# Altium integrated library ULN2003ADRG3.IntLib: 1 symbol
Pins are listed as number, name and electrical type; pins without a type are passive.

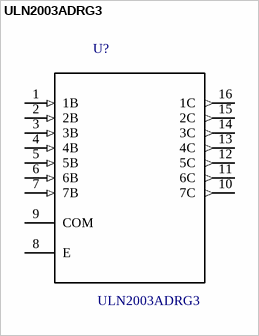
[diagram p0: symbol ULN2003ADRG3]

## ULN2003ADRG3
designator U?
IC PWR RELAY 7NPN 1:1 16SOIC; MF: Texas Instruments; Price: 0.32 USD; MP: ULN2003ADRG3; Package: SOIC-16 Texas Instruments; Availability: Good; Value: *
footprint SOIC127P600X175-16N
pins: 1 1B (in), 2 2B (in), 3 3B (in), 4 4B (in), 5 5B (in), 6 6B (in), 7 7B (in), 8 E, 9 COM, 10 7C (out), 11 6C (out), 12 5C (out), 13 4C (out), 14 3C (out), 15 2C (out), 16 1C (out)